# EAGLE library part SIPEED_M1 (library K210)
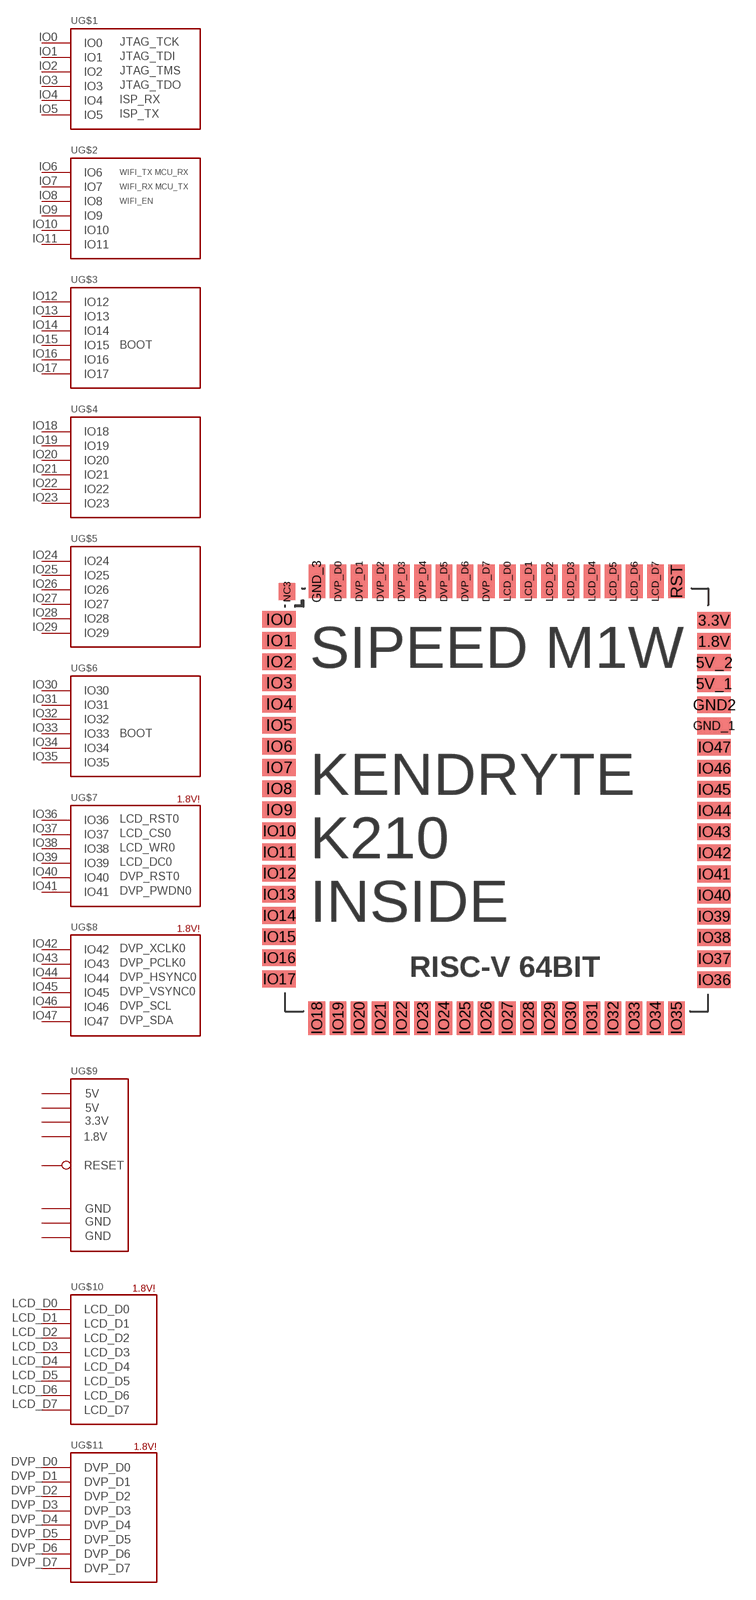
[diagram p0: symbol with the pads of K210; footprint K210]

Designator prefix -; gates G$1=K210_1 G$2=K210_2 G$3=K210_3 G$4=K210_4 G$5=K210_5 G$6=K210_6 G$7=K210_7 G$8=K210_8 G$9=K210_9 G$10=K210_10 G$11=K210_11

## SIPEED_M1  [K210]
1.8V  G$9:1.8V  pwr
3.3V  G$9:3.3V  pwr
5V_1  G$9:5V_1  pwr
5V_2  G$9:5V_2  pwr
DVP_D0  G$11:DVP_D0
DVP_D1  G$11:DVP_D1
DVP_D2  G$11:DVP_D2
DVP_D3  G$11:DVP_D3
DVP_D4  G$11:DVP_D4
DVP_D5  G$11:DVP_D5
DVP_D6  G$11:DVP_D6
DVP_D7  G$11:DVP_D7
GND2  G$9:GND2  pwr
GND_1  G$9:GND1  pwr
GND_3  G$9:GND3  pwr
IO0  G$1:IO0
IO1  G$1:IO1
IO2  G$1:IO2
IO3  G$1:IO3
IO4  G$1:IO4
IO5  G$1:IO5
IO6  G$2:IO6
IO7  G$2:IO7
IO8  G$2:IO8
IO9  G$2:IO9
IO10  G$2:IO10
IO11  G$2:IO11
IO12  G$3:IO12
IO13  G$3:IO13
IO14  G$3:IO14
IO15  G$3:IO15
IO16  G$3:IO16
IO17  G$3:IO17
IO18  G$4:IO18
IO19  G$4:IO19
IO20  G$4:IO20
IO21  G$4:IO21
IO22  G$4:IO22
IO23  G$4:IO23
IO24  G$5:IO24
IO25  G$5:IO25
IO26  G$5:IO26
IO27  G$5:IO27
IO28  G$5:IO28
IO29  G$5:IO29
IO30  G$6:IO30
IO31  G$6:IO31
IO32  G$6:IO32
IO33  G$6:IO33
IO34  G$6:IO34
IO35  G$6:IO35
IO36  G$7:IO36
IO37  G$7:IO37
IO38  G$7:IO38
IO39  G$7:IO39
IO40  G$7:IO40
IO41  G$7:IO41
IO42  G$8:IO42
IO43  G$8:IO43
IO44  G$8:IO44
IO45  G$8:IO45
IO46  G$8:IO46
IO47  G$8:IO47
LCD_D0  G$10:LCD_D0
LCD_D1  G$10:LCD_D1
LCD_D2  G$10:LCD_D2
LCD_D3  G$10:LCD_D3
LCD_D4  G$10:LCD_D4
LCD_D5  G$10:LCD_D5
LCD_D6  G$10:LCD_D6
LCD_D7  G$10:LCD_D7
RST  G$9:RESET  in

## Footprint K210 (pad centres in mm)
smd 2 x 1: 1.8V 25.755,22.221; 3.3V 25.755,23.491; 5V_1 25.755,19.681; 5V_2 25.755,20.951; GND2 25.755,18.411; GND_1 25.755,17.141; IO0 -0.362,23.54; IO1 -0.362,22.27; IO2 -0.362,21; IO3 -0.362,19.73; IO4 -0.362,18.46; IO5 -0.362,17.19; IO6 -0.362,15.92; IO7 -0.362,14.65; IO8 -0.362,13.38; IO9 -0.362,12.11; IO10 -0.362,10.84; IO11 -0.362,9.57; IO12 -0.362,8.3; IO13 -0.362,7.03; IO14 -0.362,5.76; IO15 -0.362,4.49; IO16 -0.362,3.22; IO17 -0.362,1.95; IO36 25.755,1.901; IO37 25.755,3.171; IO38 25.755,4.441; IO39 25.755,5.711; IO40 25.755,6.981; IO41 25.755,8.251; IO42 25.755,9.521; IO43 25.755,10.791; IO44 25.755,12.061; IO45 25.755,13.331; IO46 25.755,14.601; IO47 25.755,15.871
smd 1 x 2: DVP_D0 3.18,25.82; DVP_D1 4.45,25.82; DVP_D2 5.72,25.82; DVP_D3 6.99,25.82; DVP_D4 8.26,25.82; DVP_D5 9.53,25.82; DVP_D6 10.8,25.82; DVP_D7 12.07,25.82; GND_3 1.91,25.82; IO18 1.9,-0.4; IO19 3.17,-0.4; IO20 4.44,-0.4; IO21 5.71,-0.4; IO22 6.98,-0.4; IO23 8.25,-0.4; IO24 9.52,-0.4; IO25 10.79,-0.4; IO26 12.06,-0.4; IO27 13.33,-0.4; IO28 14.6,-0.4; IO29 15.87,-0.4; IO30 17.14,-0.4; IO31 18.41,-0.4; IO32 19.68,-0.4; IO33 20.95,-0.4; IO34 22.22,-0.4; IO35 23.49,-0.4; LCD_D0 13.34,25.82; LCD_D1 14.61,25.82; LCD_D2 15.88,25.82; LCD_D3 17.15,25.82; LCD_D4 18.42,25.82; LCD_D5 19.69,25.82; LCD_D6 20.96,25.82; LCD_D7 22.23,25.82; RST 23.5,25.82
smd 1 x 1: NC3 0.12,25.21